# EAGLE library part 74HC245 (library den)
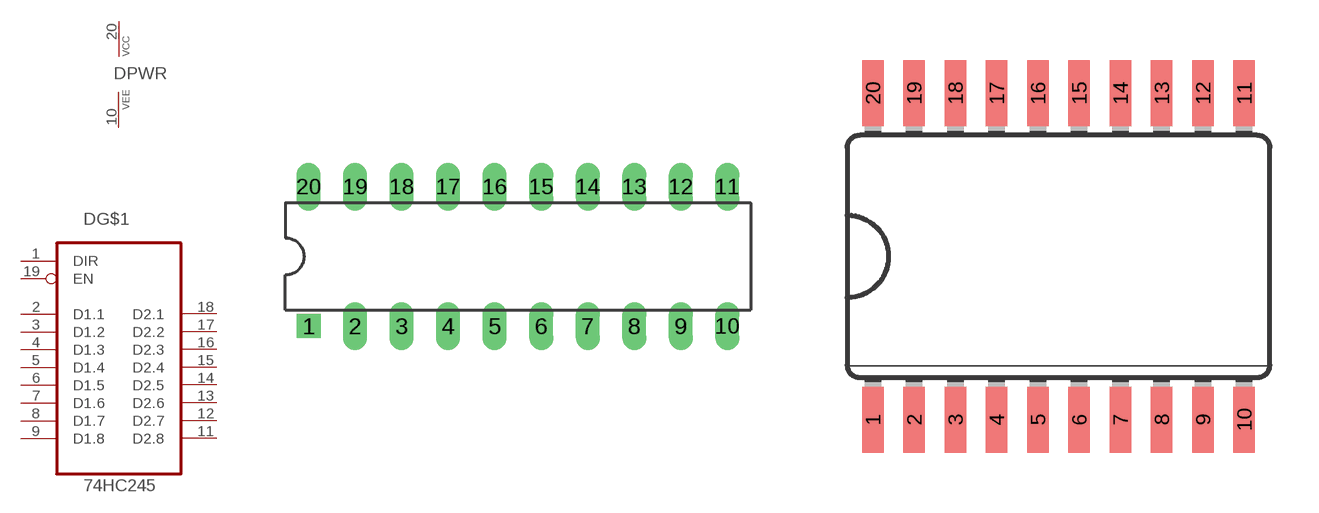
[diagram p19: symbol with the pads of DIL20; footprints DIL20, SO20W]

Designator prefix D; gates G$1=74ALS245 PWR=VCC-VEE

## 74HC245  [DIL20]
1  G$1:DIR
2  G$1:D1.1
3  G$1:D1.2
4  G$1:D1.3
5  G$1:D1.4
6  G$1:D1.5
7  G$1:D1.6
8  G$1:D1.7
9  G$1:D1.8
10  PWR:VEE  pwr
11  G$1:D2.8
12  G$1:D2.7
13  G$1:D2.6
14  G$1:D2.5
15  G$1:D2.4
16  G$1:D2.3
17  G$1:D2.2
18  G$1:D2.1
19  G$1:EN
20  PWR:VCC  pwr

## 74HC245SO  [SO20W]
Pads as for DIL20

## Footprint DIL20 (pad centres in mm)
Dual In Line Package
drill 0.8 square: 1 -11.43,-3.81
drill 0.8 long: 2 -8.89,-3.81; 3 -6.35,-3.81; 4 -3.81,-3.81; 5 -1.27,-3.81; 6 1.27,-3.81; 7 3.81,-3.81; 8 6.35,-3.81; 9 8.89,-3.81; 10 11.43,-3.81; 11 11.43,3.81; 12 8.89,3.81; 13 6.35,3.81; 14 3.81,3.81; 15 1.27,3.81; 16 -1.27,3.81; 17 -3.81,3.81; 18 -6.35,3.81; 19 -8.89,3.81; 20 -11.43,3.81

## Footprint SO20W (pad centres in mm)
Wide Small Outline package 300 mil
smd 0.66 x 2.032: 1 -5.715,-5.029; 2 -4.445,-5.029; 3 -3.175,-5.029; 4 -1.905,-5.029; 5 -0.635,-5.029; 6 0.635,-5.029; 7 1.905,-5.029; 8 3.175,-5.029; 9 4.445,-5.029; 10 5.715,-5.029; 11 5.715,5.029; 12 4.445,5.029; 13 3.175,5.029; 14 1.905,5.029; 15 0.635,5.029; 16 -0.635,5.029; 17 -1.905,5.029; 18 -3.175,5.029; 19 -4.445,5.029; 20 -5.715,5.029